# EAGLE library part HC05 (library RadioShield)
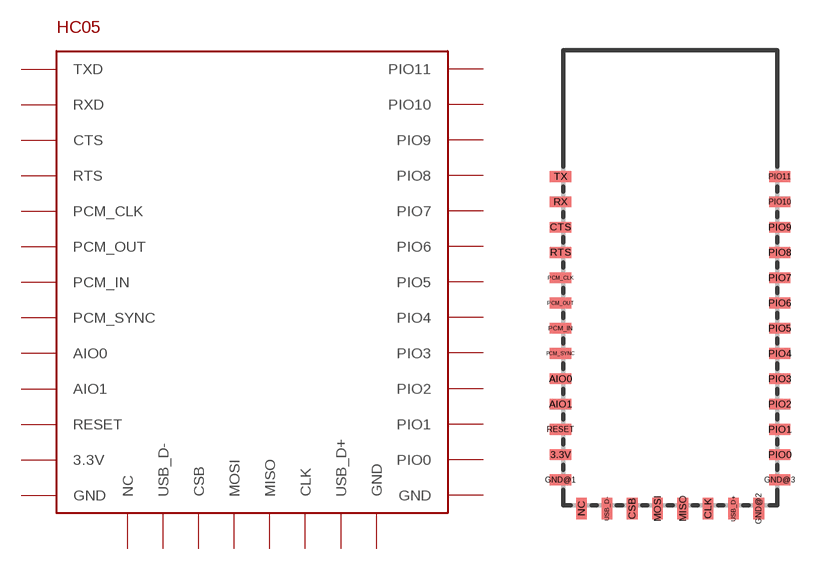
[diagram p2: symbol with the pads of HC05; footprint HC05]

Designator prefix -

## HC05  [HC05]
3.3V  3.3V
AIO0  AIO0
AIO1  AIO1
CLK  CLK
CSB  CSB
CTS  CTS
GND@1  GND
GND@2  GND
GND@3  GND
MISO  MISO
MOSI  MOSI
NC  NC
PCM_CLK  PCM_CLK
PCM_IN  PCM_IN
PCM_OUT  PCM_OUT
PCM_SYNC  PCM_SYNC
PIO0  PIO0
PIO1  PIO1
PIO2  PIO2
PIO3  PIO3
PIO4  PIO4
PIO5  PIO5
PIO6  PIO6
PIO7  PIO7
PIO8  PIO8
PIO9  PIO9
PIO10  PIO10
PIO11  PIO11
RESET  RESET
RTS  RTS
RX  RXD
TX  TXD
USB_D+  USB_D+
USB_D-  USB_D-

## Footprint HC05 (pad centres in mm)
smd 1.27 x 0.635: 3.3V -6.5,-10.5; AIO0 -6.5,-6; AIO1 -6.5,-7.5; CTS -6.5,3; GND@1 -6.5,-12; GND@3 6.5,-12; PCM_CLK -6.5,0; PCM_IN -6.5,-3; PCM_OUT -6.5,-1.5; PCM_SYNC -6.5,-4.5; PIO0 6.5,-10.5; PIO1 6.5,-9; PIO2 6.5,-7.5; PIO3 6.5,-6; PIO4 6.5,-4.5; PIO5 6.5,-3; PIO6 6.5,-1.5; PIO7 6.5,0; PIO8 6.5,1.5; PIO9 6.5,3; PIO10 6.5,4.5; PIO11 6.5,6; RESET -6.5,-9; RTS -6.5,1.5; RX -6.5,4.5; TX -6.5,6
smd 0.635 x 1.27: CLK 2.25,-13.7; CSB -2.25,-13.7; GND@2 5.25,-13.7; MISO 0.75,-13.7; MOSI -0.75,-13.7; NC -5.25,-13.7; USB_D+ 3.75,-13.7; USB_D- -3.75,-13.7